# Altium schematic symbol library IC_AUDIO.SchLib: 4 symbols
Pins are listed as number, name and electrical type; pins without a type are passive.

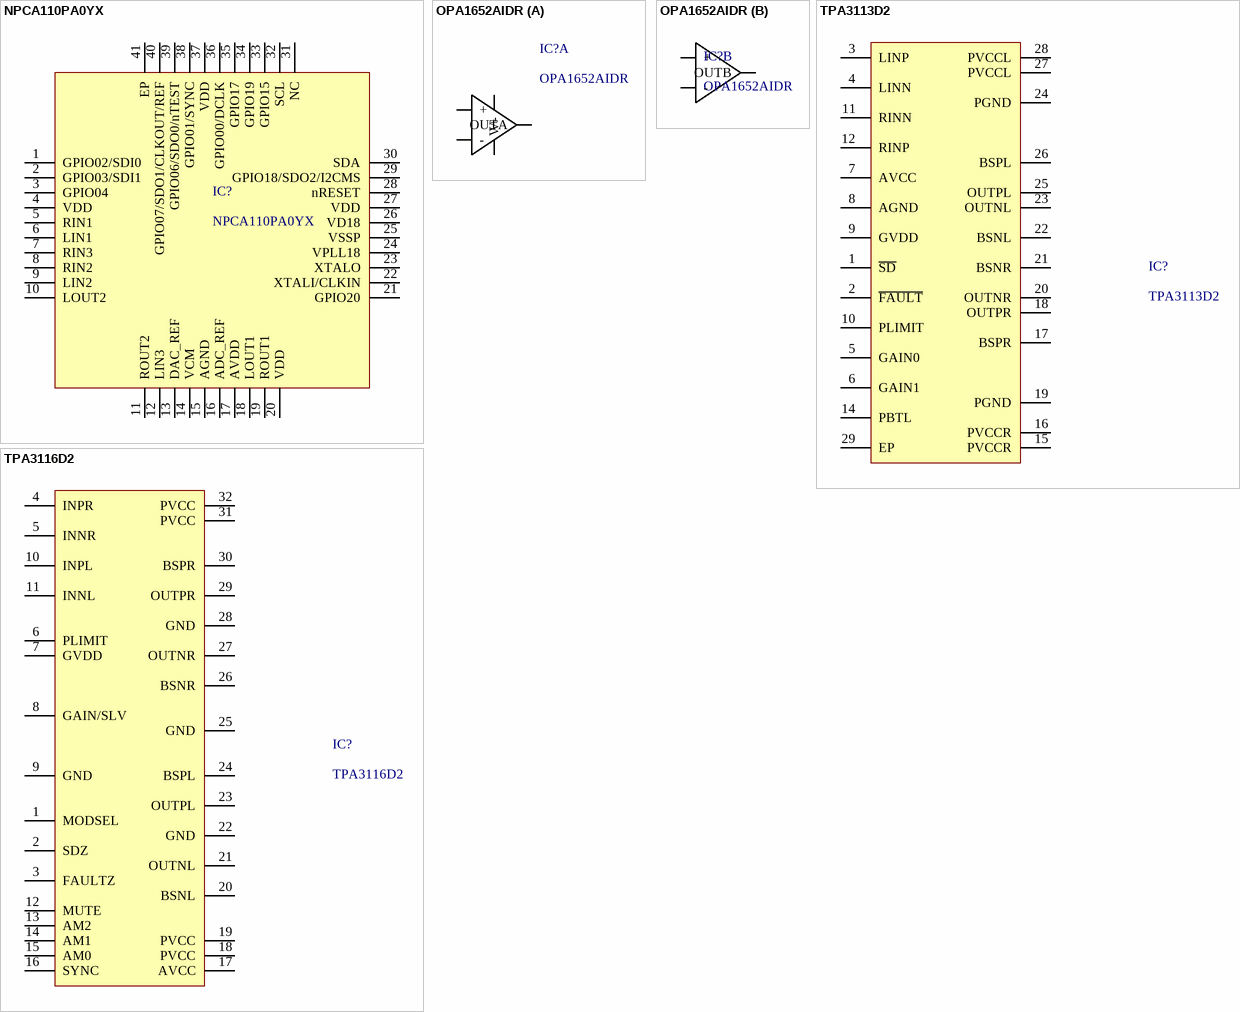
[diagram p0: symbols NPCA110PA0YX to TPA3116D2]

## NPCA110PA0YX
designator IC?
QFN-40-EP(6x6) Audio Amplifiers ROHS; Manufacturer: Nuvoton Tech; So_Chan_Dan: 41; So_Chan_Cam: 0; Mfr.Part #: NPCA110PA0YX; Package: QFN-40-EP(6x6); Name: NPCA110PA0YX
footprint QFN-40-EP(6x6)
pins: 1 GPIO02/SDI0, 2 GPIO03/SDI1, 3 GPIO04, 4 VDD, 5 RIN1, 6 LIN1, 7 RIN3, 8 RIN2, 9 LIN2, 10 LOUT2, 11 ROUT2, 12 LIN3, 13 DAC_REF, 14 VCM, 15 AGND, 16 ADC_REF, 17 AVDD, 18 LOUT1, 19 ROUT1, 20 VDD, 21 GPIO20, 22 XTALI/CLKIN, 23 XTALO, 24 VPLL18, 25 VSSP, 26 VD18, 27 VDD, 28 nRESET, 29 GPIO18/SDO2/I2CMS, 30 SDA, 31 NC, 32 SCL, 33 GPIO15, 34 GPIO19, 35 GPIO17, 36 GPIO00/DCLK, 37 VDD, 38 GPIO01/SYNC, 39 GPIO06/SDO0/nTEST, 40 GPIO07/SDO1/CLKOUT/REF, 41 EP

## OPA1652AIDR
designator IC?
2mA 2-Channel SOIC-8 Audio Amplifiers ROHS; Manufacturer: TI; Package: SOIC-8; Mfr.Part #: OPA1652AIDR; LCSC Part #: C30025
footprint SOIC-8
part A pins: 1 OUTA, 2 -, 3 +, 4 V- (power), 8 V+ (power)
part B pins: 5 +, 6 -, 7 OUTB

## TPA3113D2
designator IC?
Dual Channel 6Wx2@8Ω Class D Amplifier HTSSOP-28-EP-4.5mm Audio Amplifiers ROHS; Manufacturer: Texas Instruments; Mfr.Part #: TPA3113D2PWPR; Package: HTSSOP-28-EP-4.5mm; LCSC Part #: C128608
footprint HTSSOP-32-EP-6.1mm-TPA3116D2
pins: 1 ~{SD}, 2 ~{FAULT}, 3 LINP, 4 LINN, 5 GAIN0, 6 GAIN1, 7 AVCC, 8 AGND, 9 GVDD, 10 PLIMIT, 11 RINN, 12 RINP, 14 PBTL, 15 PVCCR, 16 PVCCR, 17 BSPR, 18 OUTPR, 19 PGND, 20 OUTNR, 21 BSNR, 22 BSNL, 23 OUTNL, 24 PGND, 25 OUTPL, 26 BSPL, 27 PVCCL, 28 PVCCL, 29 EP

## TPA3116D2
designator IC?
20mA 2-Channel 50Wx2@4Ω Class D HTSSOP-32-6.1mm Audio Amplifiers ROHS; Manufacturer: Texas Instruments; Mfr.Part #: TPA3116D2DADR; Package: HTSSOP-32-6.1mm; LCSC Part #: C50144
footprint HTSSOP-32-EP-6.1mm-TPA3116D2
pins: 1 MODSEL, 2 SDZ, 3 FAULTZ, 4 INPR, 5 INNR, 6 PLIMIT, 7 GVDD, 8 GAIN/SLV, 9 GND, 10 INPL, 11 INNL, 12 MUTE, 13 AM2, 14 AM1, 15 AM0, 16 SYNC, 17 AVCC, 18 PVCC, 19 PVCC, 20 BSNL, 21 OUTNL, 22 GND, 23 OUTPL, 24 BSPL, 25 GND, 26 BSNR, 27 OUTNR, 28 GND, 29 OUTPR, 30 BSPR, 31 PVCC, 32 PVCC